# Altium footprint library SMB.PcbLib: 1 footprints
Each footprint in its own frame and in the unit in brackets; x right, y up, seen from the top. Pads: shape width x height; smd on the part's side, far side on the other; paste and mask are expansions set on the pad; w line width, h text height; cw(c..) or ccw(c..) is an arc to the next point about the centre after c.
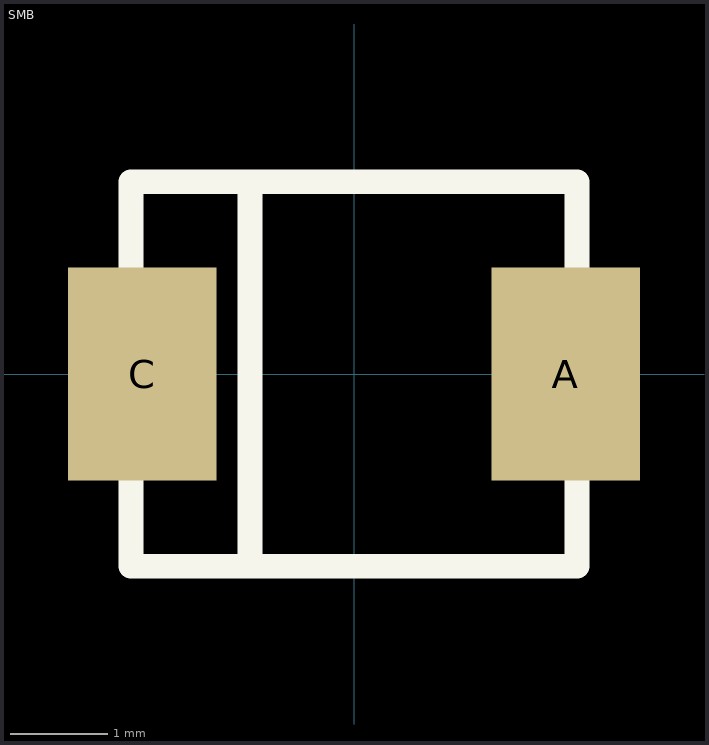
[diagram p0: the footprint, top view; thin cyan lines are the x and y axes]

## SMB [mm]
pads (2):
  rect 1.52x2.18 smd: A(2.17,0) C(-2.17,0)
Top Overlay:
  lines w0.254: -1.065,-1.97 -1.065,1.97 ; -2.285,-1.97 2.285,-1.97 ; -2.285,-1.97 -2.285,-1.97 ; -2.285,-1.97 -2.285,1.97 2.285,1.97 ; 2.285,-1.97 2.285,1.97 ; 2.285,-1.97 2.285,-1.97 ; 2.285,1.97 2.285,1.97
3D body: height 2.2, standoff -0.05, extent -2.65,-1.85 2.65,1.85